# Altium schematic symbol library GRM155R70J222KA01D.SchLib: 1 symbol
Pins are listed as number, name and electrical type; pins without a type are passive.

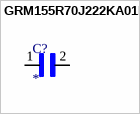
[diagram p0: symbol GRM155R70J222KA01D]

## GRM155R70J222KA01D
designator C?
Cap Ceramic 0.0022uF 6.3V X7R 10% SMD 0402 125Â°C Paper T/R; MP: GRM155R70J222KA01D; Package: None; Price: None; Value: *; Availability: Unavailable
footprint CAPC1005X55N
pins: 1, 2